# Altium schematic symbol library Discretes.SCHLIB: 5 symbols
Pins are listed as number, name and electrical type; pins without a type are passive.

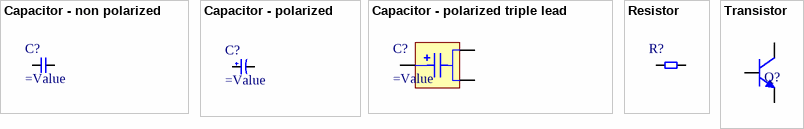
[diagram p0: symbols Capacitor - non polarized to Transistor]

## Capacitor - non polarized
designator C?
Non-polarised capacitor
pins: 1, 2

## Capacitor - polarized
designator C?
Polarised capacitor
pins: 1, 2

## Capacitor - polarized triple lead
designator C?
polarized triple lead capacitor
pins: 1, 2, 3

## Resistor
designator R?
0.25W axial resistor
pins: 1, 2

## Transistor
designator Q?
NPN General Purpose Amplifier
pins: 1 E, 2 B, 3 C